# Altium integrated library IRM-03-12.IntLib: 1 symbol
Pins are listed as number, name and electrical type; pins without a type are passive.

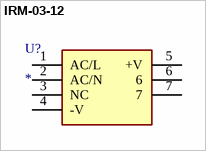
[diagram p0: symbol IRM-03-12]

## IRM-03-12
designator U?
Datasheet: http://www.farnell.com/datasheets/2547883.pdf
footprint IRM-03-12
pins: 1 AC/L, 2 AC/N, 3 NC, 4 -V, 5 +V, 6, 7